# Altium footprint library SM02BSRSSTBLFSN.PcbLib: 1 footprints
Each footprint in its own frame and in the unit in brackets; x right, y up, seen from the top. Pads: shape width x height; smd on the part's side, far side on the other; paste and mask are expansions set on the pad; w line width, h text height; cw(c..) or ccw(c..) is an arc to the next point about the centre after c.
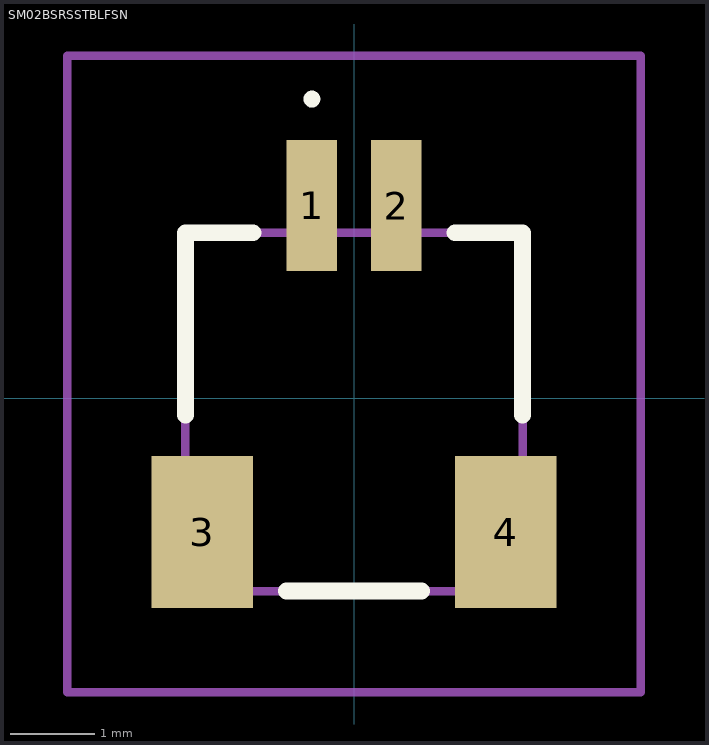
[diagram p0: the footprint, top view; thin cyan lines are the x and y axes]

## SM02BSRSSTBLFSN [mm]
pads (4):
  rect 0.6x1.55 smd: 1(-0.5,2.287) 2(0.5,2.287)
  rect 1.2x1.8 smd: 3(-1.8,-1.587) 4(1.8,-1.587)
Top Overlay:
  lines w0.1: -0.5,3.5 cw(c-0.5,3.55) -0.5,3.6 ; -0.5,3.5 -0.5,3.5 ; -0.5,3.5 ccw(c-0.5,3.55) -0.5,3.6 ; -0.5,3.6 -0.5,3.6
  lines w0.2: -2,-0.2 -2,1.963 -1.2,1.963 ; -0.8,-2.287 0.8,-2.287 ; 1.2,1.963 2,1.963 2,-0.2
Mechanical 15:
  lines w0.1: -2,-2.287 2,-2.287 2,1.963 -2,1.963 -2,-2.287
Mechanical 20:
  lines w0.1: -3.4,-3.487 3.4,-3.487 3.4,4.063 -3.4,4.063 -3.4,-3.487